# EAGLE library part M-2X03- (library con-headers-jp)
MALE HEADER
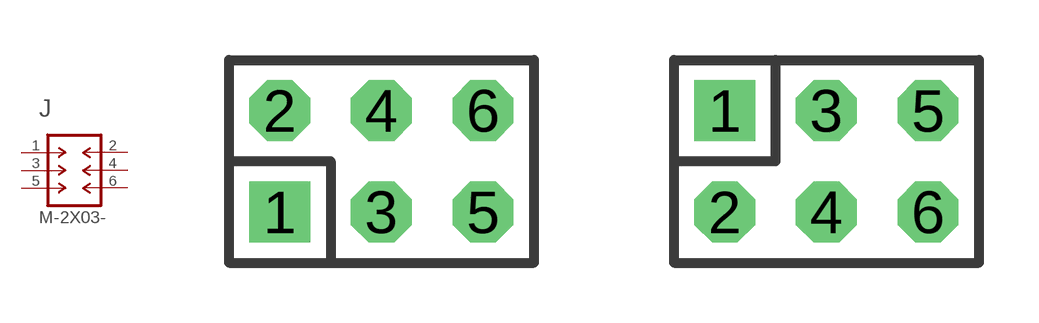
[diagram p60: symbol with the pads of DIL-100-2X03; footprints DIL-100-2X03, DIL-100-2X03_M]

Designator prefix J

## M-2X03-DIL-100  [DIL-100-2X03]
1  1  pas
2  2  pas
3  3  pas
4  4  pas
5  5  pas
6  6  pas

## M-2X03-DIL-100_M  [DIL-100-2X03_M]
Pads as for DIL-100-2X03

## M-2X03-DIL-2MM  [DIL-2MM-2X03]
Pads as for DIL-100-2X03

## M-2X03-DIL-2MM_M  [DIL-2MM-2X03_M]
Pads as for DIL-100-2X03

## M-2X03-FTS-103-50MIL  [FTS-103-50MIL]
Pads as for DIL-100-2X03

## Footprint DIL-100-2X03 (pad centres in mm)
PIN HEADER - 0.1"
drill 1.016 square: 1 -2.54,-1.27
drill 1.016 octagon: 2 -2.54,1.27; 3 0,-1.27; 4 0,1.27; 5 2.54,-1.27; 6 2.54,1.27

## Footprint DIL-100-2X03_M (pad centres in mm)
PIN HEADER - MIRRORED 0.1"
drill 1.016 square: 1 -2.54,1.27
drill 1.016 octagon: 2 -2.54,-1.27; 3 0,1.27; 4 0,-1.27; 5 2.54,1.27; 6 2.54,-1.27

## Footprint DIL-2MM-2X03 (pad centres in mm)
PIN HEADER - 2MM"
drill 0.711 pad 1.321 square: 1 -2,-1
drill 0.711 pad 1.321: 2 -2,1; 3 0,-1; 4 0,1; 5 2,-1; 6 2,1

## Footprint DIL-2MM-2X03_M (pad centres in mm)
PIN HEADER - MIRRORED 2MM
drill 0.711 pad 1.321 square: 1 -2,1
drill 0.711 pad 1.321: 2 -2,-1; 3 0,1; 4 0,-1; 5 2,1; 6 2,-1

## Footprint FTS-103-50MIL (pad centres in mm)
Samtec FTS - .050" Micro Low Profile Terminal Strip
smd 2.794 x 0.737: 1 -1.727,1.27; 2 1.727,1.27; 3 -1.727,0; 4 1.727,0; 5 -1.727,-1.27; 6 1.727,-1.27